# Altium footprint library MSOP-10.PcbLib: 1 footprints
Each footprint in its own frame and in the unit in brackets; x right, y up, seen from the top. Pads: shape width x height; smd on the part's side, far side on the other; paste and mask are expansions set on the pad; w line width, h text height; cw(c..) or ccw(c..) is an arc to the next point about the centre after c.
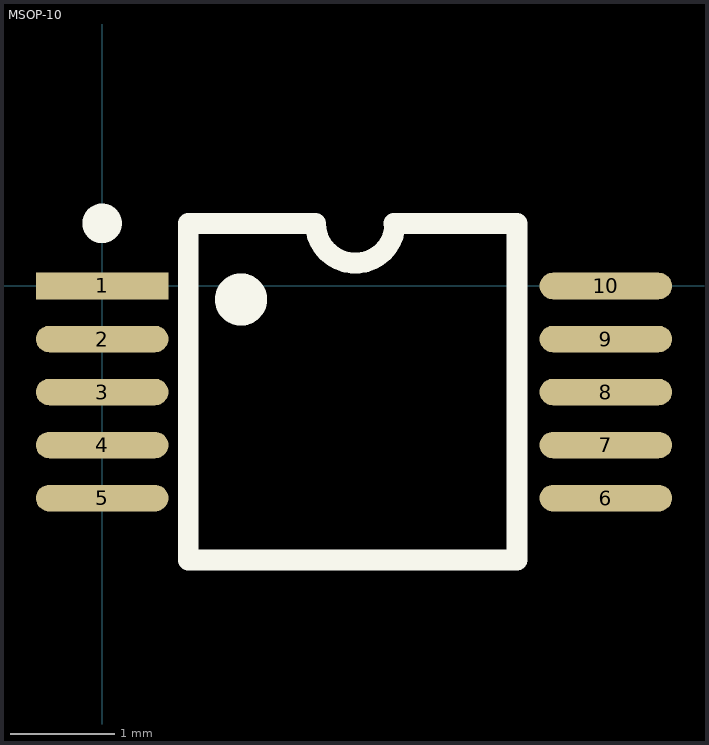
[diagram p0: the footprint, top view; thin cyan lines are the x and y axes]

## MSOP-10 [mil] "10-Lead Mini Small Outline Package"
height 40
pads (10):
  rect 50x10 smd: 1(0,0)
  oval 50x10 smd: 2(0,-20) 3(0,-40) 4(0,-60) 5(0,-80) 6(190,-80) 7(190,-60) 8(190,-40) 9(190,-20) 10(190,0)
Top Overlay:
  circle w10: c0,23.62 r2.44
  circle w9.84: c52.36,-5.08 r4.92
  lines w7.87: 80,23.62 32.48,23.62 32.48,-103.35 156.5,-103.35 156.5,23.62 110,23.62 ; 80.47,23.62 ccw(c95.47,23.62) 110.47,23.62
3D body "MSOP-10.STEP": height 42.32, standoff -0.79, extent -6.37,-103 196.38,22.99